# Altium footprint library JS102011JCQN SPDT.PcbLib: 1 footprints
Each footprint in its own frame and in the unit in brackets; x right, y up, seen from the top. Pads: shape width x height; smd on the part's side, far side on the other; paste and mask are expansions set on the pad; w line width, h text height; cw(c..) or ccw(c..) is an arc to the next point about the centre after c.
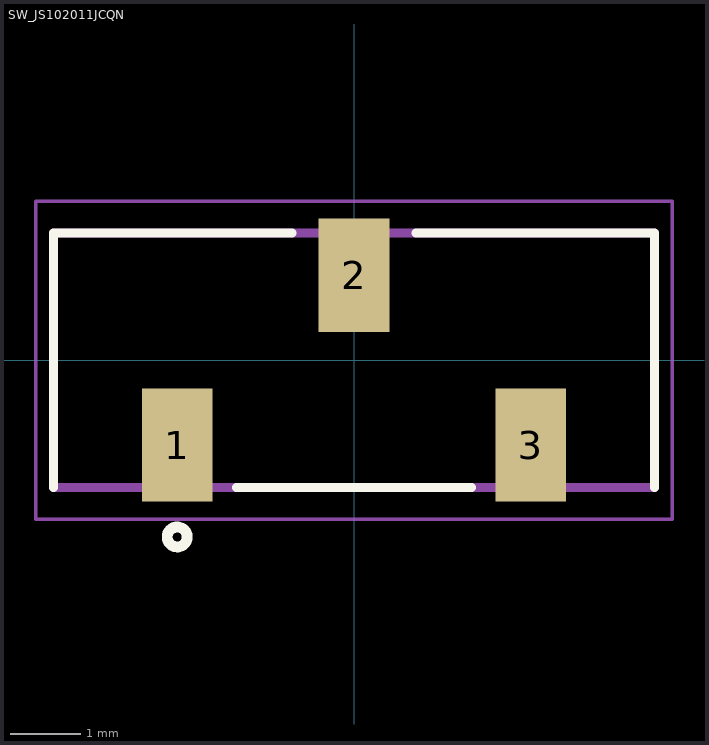
[diagram p0: the footprint, top view; thin cyan lines are the x and y axes]

## SW_JS102011JCQN [mm]
pads (3):
  rect 1x1.6 smd: 1(-2.5,-1.2) 2(0,1.2) 3(2.5,-1.2)
Top Overlay:
  circle w0.152: c-2.5,-2.5 r0.141
  lines w0.127: -4.25,-1.8 -4.25,1.8 -0.88,1.8 ; -1.66,-1.8 1.66,-1.8 ; 0.88,1.8 4.25,1.8 4.25,-1.8
Mechanical 4:
  lines w0.127: -4.25,-1.8 -4.25,1.8 ; -4.25,-1.8 4.25,-1.8 ; -4.25,-1.8 -4.25,1.8 ; -4.25,-1.8 4.25,-1.8 ; -4.25,1.8 4.25,1.8 ; -4.25,1.8 4.25,1.8 ; 4.25,-1.8 4.25,1.8 ; 4.25,-1.8 4.25,1.8
Mechanical 16:
  lines w0.05: -4.5,-2.25 -4.5,2.25 4.5,2.25 4.5,-2.25 -4.5,-2.25
3D body "JS102011JCQN.STEP": height 5.41, standoff 0.01, extent -4.25,-2 4.25,2